# Altium schematic symbol library STM32H753BIT6.SchLib: 1 symbol
Pins are listed as number, name and electrical type; pins without a type are passive.

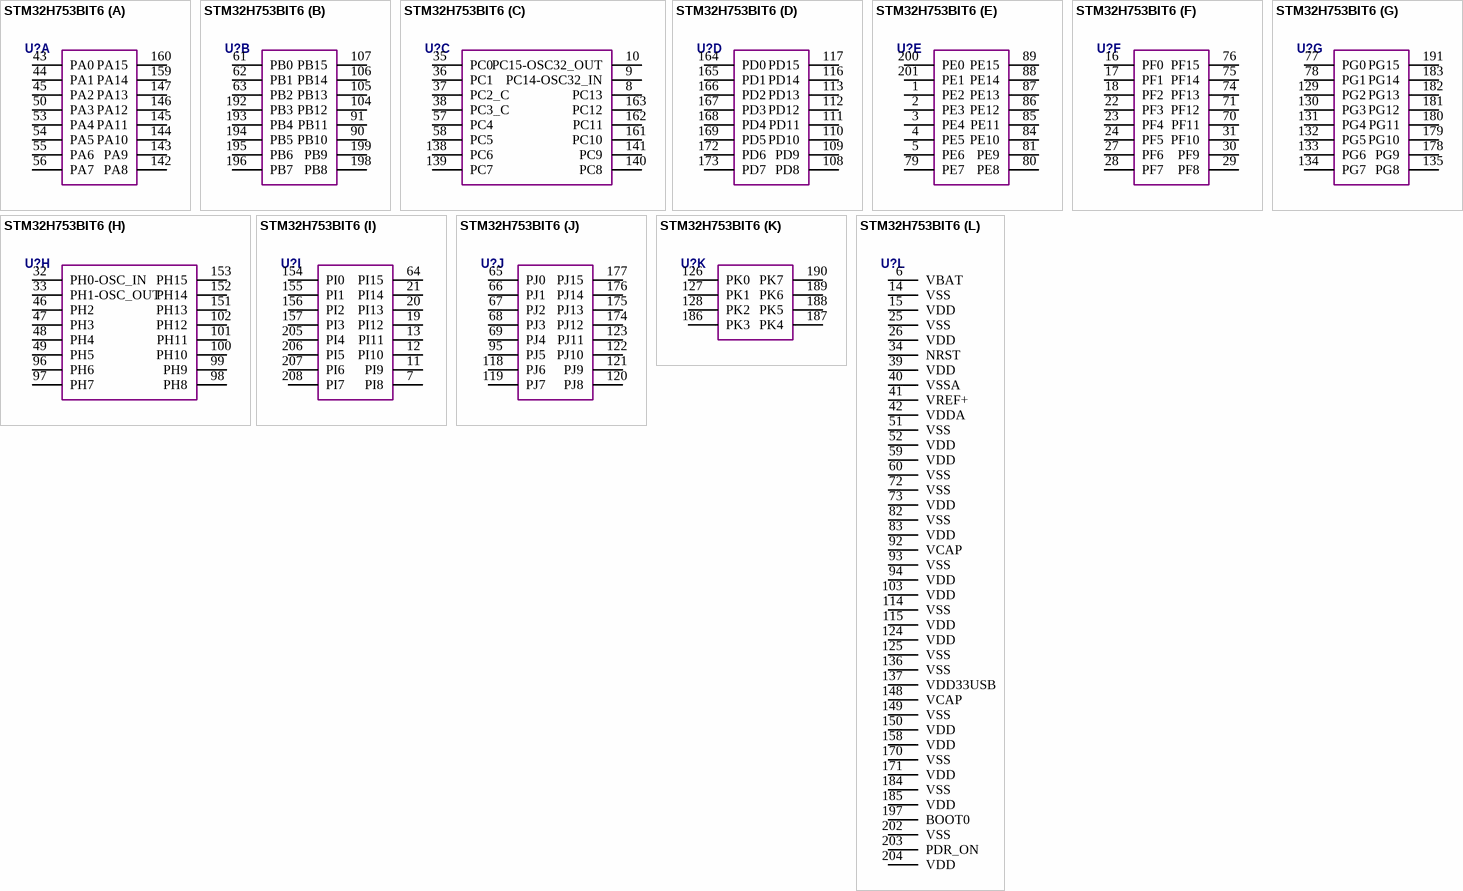
[diagram p0: symbol STM32H753BIT6]

## STM32H753BIT6
designator U?  (value not drawn)
ARM Microcontrollers - MCU High-performance and DSP with DP-FPU, ARM Cortex-M7 MCU with 2MBytes Flash, 1MB RAM, 400 MHz CPU, Art Accelerator, L1 cache, external memory interface, large set of peripherals including a Crypto accelerator
part A pins: 43 PA0, 44 PA1, 45 PA2, 50 PA3, 53 PA4, 54 PA5, 55 PA6, 56 PA7, 142 PA8, 143 PA9, 144 PA10, 145 PA11, 146 PA12, 147 PA13, 159 PA14, 160 PA15
part B pins: 61 PB0, 62 PB1, 63 PB2, 90 PB10, 91 PB11, 104 PB12, 105 PB13, 106 PB14, 107 PB15, 192 PB3, 193 PB4, 194 PB5, 195 PB6, 196 PB7, 198 PB8, 199 PB9
part C pins: 8 PC13, 9 PC14-OSC32_IN, 10 PC15-OSC32_OUT, 35 PC0, 36 PC1, 37 PC2_C, 38 PC3_C, 57 PC4, 58 PC5, 138 PC6, 139 PC7, 140 PC8, 141 PC9, 161 PC10, 162 PC11, 163 PC12
part D pins: 108 PD8, 109 PD9, 110 PD10, 111 PD11, 112 PD12, 113 PD13, 116 PD14, 117 PD15, 164 PD0, 165 PD1, 166 PD2, 167 PD3, 168 PD4, 169 PD5, 172 PD6, 173 PD7
part E pins: 1 PE2, 2 PE3, 3 PE4, 4 PE5, 5 PE6, 79 PE7, 80 PE8, 81 PE9, 84 PE10, 85 PE11, 86 PE12, 87 PE13, 88 PE14, 89 PE15, 200 PE0, 201 PE1
part F pins: 16 PF0, 17 PF1, 18 PF2, 22 PF3, 23 PF4, 24 PF5, 27 PF6, 28 PF7, 29 PF8, 30 PF9, 31 PF10, 70 PF11, 71 PF12, 74 PF13, 75 PF14, 76 PF15
part G pins: 77 PG0, 78 PG1, 129 PG2, 130 PG3, 131 PG4, 132 PG5, 133 PG6, 134 PG7, 135 PG8, 178 PG9, 179 PG10, 180 PG11, 181 PG12, 182 PG13, 183 PG14, 191 PG15
part H pins: 32 PH0-OSC_IN, 33 PH1-OSC_OUT, 46 PH2, 47 PH3, 48 PH4, 49 PH5, 96 PH6, 97 PH7, 98 PH8, 99 PH9, 100 PH10, 101 PH11, 102 PH12, 151 PH13, 152 PH14, 153 PH15
part I pins: 7 PI8, 11 PI9, 12 PI10, 13 PI11, 19 PI12, 20 PI13, 21 PI14, 64 PI15, 154 PI0, 155 PI1, 156 PI2, 157 PI3, 205 PI4, 206 PI5, 207 PI6, 208 PI7
part J pins: 65 PJ0, 66 PJ1, 67 PJ2, 68 PJ3, 69 PJ4, 95 PJ5, 118 PJ6, 119 PJ7, 120 PJ8, 121 PJ9, 122 PJ10, 123 PJ11, 174 PJ12, 175 PJ13, 176 PJ14, 177 PJ15
part K pins: 126 PK0, 127 PK1, 128 PK2, 186 PK3, 187 PK4, 188 PK5, 189 PK6, 190 PK7
part L pins: 6 VBAT, 14 VSS, 15 VDD, 25 VSS, 26 VDD, 34 NRST, 39 VDD, 40 VSSA, 41 VREF+, 42 VDDA, 51 VSS, 52 VDD, 59 VDD, 60 VSS, 72 VSS, 73 VDD, 82 VSS, 83 VDD, 92 VCAP, 93 VSS, 94 VDD, 103 VDD, 114 VSS, 115 VDD, 124 VDD, 125 VSS, 136 VSS, 137 VDD33USB, 148 VCAP, 149 VSS, 150 VDD, 158 VDD, 170 VSS, 171 VDD, 184 VSS, 185 VDD, 197 BOOT0, 202 VSS, 203 PDR_ON, 204 VDD